# EAGLE library part PCM1808REVERSE (library PCM_v7)
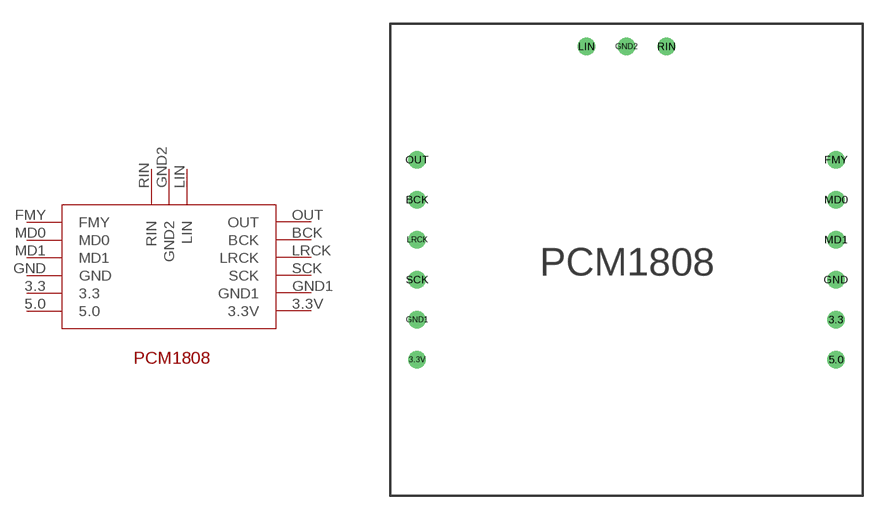
[diagram p2: symbol with the pads of ADCREVERSE; footprint ADCREVERSE]

Designator prefix -

## PCM1808REVERSE  [ADCREVERSE]
3.3  3.3
3.3V  3.3V
5.0  5.0
BCK  BCK
FMY  FMY
GND  GND
GND1  GND1
GND2  GND2
LIN  LIN
LRCK  LRCK
MD0  MD0
MD1  MD1
OUT  OUT
RIN  RIN
SCK  SCK

## Footprint ADCREVERSE (pad centres in mm)
drill 0.6: 3.3 13.287,-2.54; 3.3V -13.287,-5.08; 5.0 13.287,-5.08; BCK -13.287,5.08; FMY 13.287,7.62; GND 13.287,0; GND1 -13.287,-2.54; GND2 0,14.814; LIN -2.54,14.814; LRCK -13.287,2.54; MD0 13.287,5.08; MD1 13.287,2.54; OUT -13.287,7.62; RIN 2.54,14.814; SCK -13.287,0